# Altium footprint library XBee.PcbLib: 1 footprints
Each footprint in its own frame and in the unit in brackets; x right, y up, seen from the top. Pads: shape width x height; smd on the part's side, far side on the other; paste and mask are expansions set on the pad; w line width, h text height; cw(c..) or ccw(c..) is an arc to the next point about the centre after c.
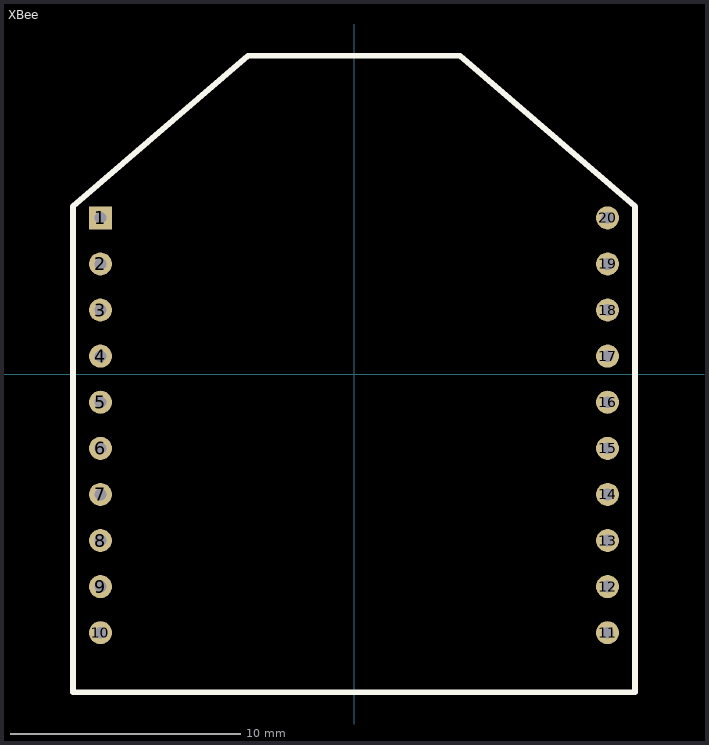
[diagram p0: the footprint, top view; thin cyan lines are the x and y axes]

## XBee [mm] "XBee OEM RF Module"
height 6.75
pads (20):
  rect 1x1 hole 0.51: 1(-11,6.775)
  round 1 hole 0.51: 2(-11,4.775) 3(-11,2.775) 4(-11,0.775) 5(-11,-1.225) 6(-11,-3.225) 7(-11,-5.225) 8(-11,-7.225) 9(-11,-9.225) 10(-11,-11.225) 11(11,-11.225) 12(11,-9.225) 13(11,-7.225) 14(11,-5.225) 15(11,-3.225) 16(11,-1.225) 17(11,0.775) 18(11,2.775) 19(11,4.775) 20(11,6.775)
Top Overlay:
  lines w0.254: -12.19,-13.805 12.19,-13.805 12.19,7.275 4.6,13.805 -4.6,13.805 -12.19,7.275 -12.19,-13.805